# Altium integrated library BB Converter Analog to Digital.IntLib: 242 symbols (part 2 of 6)
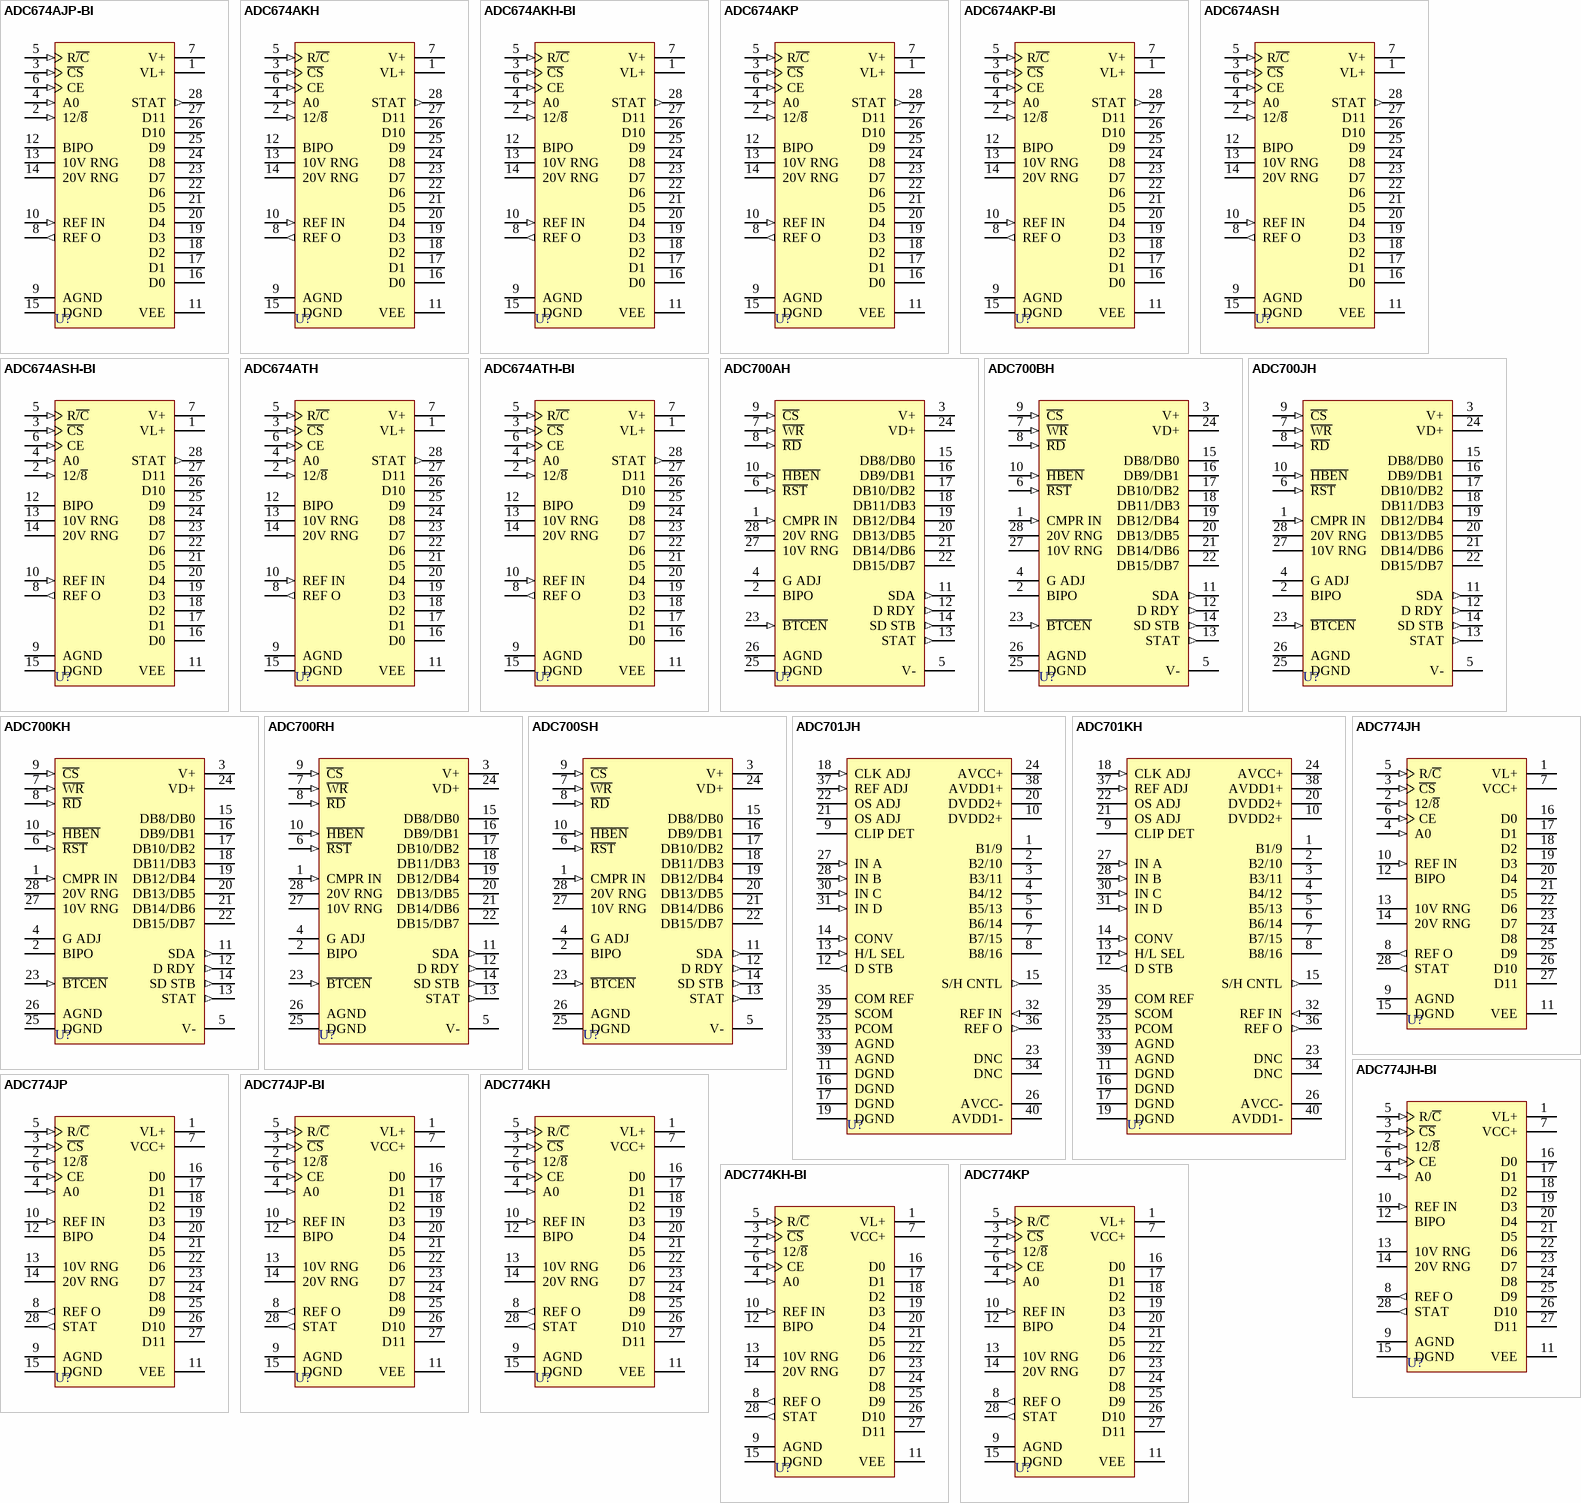
[diagram p10: symbols ADC674AJP-BI to ADC774KP]

## ADC674ASH-BI
designator U?
Microprocessor-Compatible Analog-to-Digital Converter; Published: 8-Jun-2000; LatestRevisionDate: 06-Jun-2005; LatestRevisionNote: Stylized 3D Model Added.; DatasheetVersion: 1996~1997; PackageVersion: 1994; PackageReference: 149; Publisher: Altium Limited; PackageDescription: DIP; 28 Leads; Row Spacing 15.24 mm; Pitch 2.54 mm; ComponentLink1Description: Manufacturer Link; ComponentLink1URL: http://www.ti.com/
footprint 149 (DIP; 28 Leads; Row Spacing 15.24 mm; Pitch 2.54 mm)
3D model 149 (DIP; 28 Leads; Row Spacing 15.24 mm; Pitch 2.54 mm)
pins: 1 VL+ (power), 2 12/~{8} (in), 3 ~{CS} (in), 4 A0 (in), 5 R~{/C} (in), 6 CE (in), 7 V+ (power), 8 REF O (out), 9 AGND (power), 10 REF IN (in), 11 VEE (power), 12 BIPO, 13 10V RNG, 14 20V RNG, 15 DGND (power), 16 D0 (hiz), 17 D1 (hiz), 18 D2 (hiz), 19 D3 (hiz), 20 D4 (hiz), 21 D5 (hiz), 22 D6 (hiz), 23 D7 (hiz), 24 D8 (hiz), 25 D9 (hiz), 26 D10 (hiz), 27 D11 (hiz), 28 STAT (out)

## ADC674ATH
designator U?
Microprocessor-Compatible Analog-to-Digital Converter; Published: 8-Jun-2000; LatestRevisionDate: 06-Jun-2005; LatestRevisionNote: Stylized 3D Model Added.; DatasheetVersion: 1996~1997; PackageVersion: 1994; PackageReference: 149; Publisher: Altium Limited; PackageDescription: DIP; 28 Leads; Row Spacing 15.24 mm; Pitch 2.54 mm; ComponentLink1Description: Manufacturer Link; ComponentLink1URL: http://www.ti.com/
footprint 149 (DIP; 28 Leads; Row Spacing 15.24 mm; Pitch 2.54 mm)
3D model 149 (DIP; 28 Leads; Row Spacing 15.24 mm; Pitch 2.54 mm)
pins: 1 VL+ (power), 2 12/~{8} (in), 3 ~{CS} (in), 4 A0 (in), 5 R~{/C} (in), 6 CE (in), 7 V+ (power), 8 REF O (out), 9 AGND (power), 10 REF IN (in), 11 VEE (power), 12 BIPO, 13 10V RNG, 14 20V RNG, 15 DGND (power), 16 D0 (hiz), 17 D1 (hiz), 18 D2 (hiz), 19 D3 (hiz), 20 D4 (hiz), 21 D5 (hiz), 22 D6 (hiz), 23 D7 (hiz), 24 D8 (hiz), 25 D9 (hiz), 26 D10 (hiz), 27 D11 (hiz), 28 STAT (out)

## ADC674ATH-BI
designator U?
Microprocessor-Compatible Analog-to-Digital Converter; Published: 8-Jun-2000; LatestRevisionDate: 06-Jun-2005; LatestRevisionNote: Stylized 3D Model Added.; DatasheetVersion: 1996~1997; PackageVersion: 1994; PackageReference: 149; Publisher: Altium Limited; PackageDescription: DIP; 28 Leads; Row Spacing 15.24 mm; Pitch 2.54 mm; ComponentLink1Description: Manufacturer Link; ComponentLink1URL: http://www.ti.com/
footprint 149 (DIP; 28 Leads; Row Spacing 15.24 mm; Pitch 2.54 mm)
3D model 149 (DIP; 28 Leads; Row Spacing 15.24 mm; Pitch 2.54 mm)
pins: 1 VL+ (power), 2 12/~{8} (in), 3 ~{CS} (in), 4 A0 (in), 5 R~{/C} (in), 6 CE (in), 7 V+ (power), 8 REF O (out), 9 AGND (power), 10 REF IN (in), 11 VEE (power), 12 BIPO, 13 10V RNG, 14 20V RNG, 15 DGND (power), 16 D0 (hiz), 17 D1 (hiz), 18 D2 (hiz), 19 D3 (hiz), 20 D4 (hiz), 21 D5 (hiz), 22 D6 (hiz), 23 D7 (hiz), 24 D8 (hiz), 25 D9 (hiz), 26 D10 (hiz), 27 D11 (hiz), 28 STAT (out)

## ADC700AH
designator U?
16-Bit Resolution with Microprocessor Interface A/D Converter; Published: 8-Jun-2000; LatestRevisionDate: 06-Jun-2005; LatestRevisionNote: Stylized 3D Model Added.; DatasheetVersion: Oct-1993; PackageVersion: revC; PackageReference: 237C; Publisher: Altium Limited; PackageDescription: DIP; 28 Leads; Row Spacing 15.24 mm; Pitch 2.54 mm; ComponentLink1Description: Manufacturer Link; ComponentLink1URL: http://www.ti.com/
footprint 237C (DIP; 28 Leads; Row Spacing 15.24 mm; Pitch 2.54 mm)
3D model P28 (DIP; 28 Leads; Row Spacing 15.24 mm; Pitch 2.54 mm)
pins: 1 CMPR IN (in), 2 BIPO, 3 V+ (power), 4 G ADJ, 5 V- (power), 6 ~{RST} (in), 7 ~{WR} (in), 8 ~{RD} (in), 9 ~{CS} (in), 10 ~{HBEN} (in), 11 SDA (out), 12 D RDY (out), 13 STAT (out), 14 SD STB (out), 15 DB8/DB0 (hiz), 16 DB9/DB1 (hiz), 17 DB10/DB2 (hiz), 18 DB11/DB3 (hiz), 19 DB12/DB4 (hiz), 20 DB13/DB5 (hiz), 21 DB14/DB6 (hiz), 22 DB15/DB7 (hiz), 23 ~{BTCEN} (in), 24 VD+ (power), 25 DGND (power), 26 AGND (power), 27 10V RNG, 28 20V RNG

## ADC700BH
designator U?
16-Bit Resolution with Microprocessor Interface A/D Converter; Published: 8-Jun-2000; LatestRevisionDate: 06-Jun-2005; LatestRevisionNote: Stylized 3D Model Added.; DatasheetVersion: Oct-1993; PackageVersion: revC; PackageReference: 237C; Publisher: Altium Limited; PackageDescription: DIP; 28 Leads; Row Spacing 15.24 mm; Pitch 2.54 mm; ComponentLink1Description: Manufacturer Link; ComponentLink1URL: http://www.ti.com/
footprint 237C (DIP; 28 Leads; Row Spacing 15.24 mm; Pitch 2.54 mm)
3D model P28 (DIP; 28 Leads; Row Spacing 15.24 mm; Pitch 2.54 mm)
pins: 1 CMPR IN (in), 2 BIPO, 3 V+ (power), 4 G ADJ, 5 V- (power), 6 ~{RST} (in), 7 ~{WR} (in), 8 ~{RD} (in), 9 ~{CS} (in), 10 ~{HBEN} (in), 11 SDA (out), 12 D RDY (out), 13 STAT (out), 14 SD STB (out), 15 DB8/DB0 (hiz), 16 DB9/DB1 (hiz), 17 DB10/DB2 (hiz), 18 DB11/DB3 (hiz), 19 DB12/DB4 (hiz), 20 DB13/DB5 (hiz), 21 DB14/DB6 (hiz), 22 DB15/DB7 (hiz), 23 ~{BTCEN} (in), 24 VD+ (power), 25 DGND (power), 26 AGND (power), 27 10V RNG, 28 20V RNG

## ADC700JH
designator U?
16-Bit Resolution with Microprocessor Interface A/D Converter; Published: 8-Jun-2000; LatestRevisionDate: 06-Jun-2005; LatestRevisionNote: Stylized 3D Model Added.; DatasheetVersion: Oct-1993; PackageVersion: revC; PackageReference: 237C; Publisher: Altium Limited; PackageDescription: DIP; 28 Leads; Row Spacing 15.24 mm; Pitch 2.54 mm; ComponentLink1Description: Manufacturer Link; ComponentLink1URL: http://www.ti.com/
footprint 237C (DIP; 28 Leads; Row Spacing 15.24 mm; Pitch 2.54 mm)
3D model P28 (DIP; 28 Leads; Row Spacing 15.24 mm; Pitch 2.54 mm)
pins: 1 CMPR IN (in), 2 BIPO, 3 V+ (power), 4 G ADJ, 5 V- (power), 6 ~{RST} (in), 7 ~{WR} (in), 8 ~{RD} (in), 9 ~{CS} (in), 10 ~{HBEN} (in), 11 SDA (out), 12 D RDY (out), 13 STAT (out), 14 SD STB (out), 15 DB8/DB0 (hiz), 16 DB9/DB1 (hiz), 17 DB10/DB2 (hiz), 18 DB11/DB3 (hiz), 19 DB12/DB4 (hiz), 20 DB13/DB5 (hiz), 21 DB14/DB6 (hiz), 22 DB15/DB7 (hiz), 23 ~{BTCEN} (in), 24 VD+ (power), 25 DGND (power), 26 AGND (power), 27 10V RNG, 28 20V RNG

## ADC700KH
designator U?
16-Bit Resolution with Microprocessor Interface A/D Converter; Published: 8-Jun-2000; LatestRevisionDate: 06-Jun-2005; LatestRevisionNote: Stylized 3D Model Added.; DatasheetVersion: Oct-1993; PackageVersion: revC; PackageReference: 237C; Publisher: Altium Limited; PackageDescription: DIP; 28 Leads; Row Spacing 15.24 mm; Pitch 2.54 mm; ComponentLink1Description: Manufacturer Link; ComponentLink1URL: http://www.ti.com/
footprint 237C (DIP; 28 Leads; Row Spacing 15.24 mm; Pitch 2.54 mm)
3D model P28 (DIP; 28 Leads; Row Spacing 15.24 mm; Pitch 2.54 mm)
pins: 1 CMPR IN (in), 2 BIPO, 3 V+ (power), 4 G ADJ, 5 V- (power), 6 ~{RST} (in), 7 ~{WR} (in), 8 ~{RD} (in), 9 ~{CS} (in), 10 ~{HBEN} (in), 11 SDA (out), 12 D RDY (out), 13 STAT (out), 14 SD STB (out), 15 DB8/DB0 (hiz), 16 DB9/DB1 (hiz), 17 DB10/DB2 (hiz), 18 DB11/DB3 (hiz), 19 DB12/DB4 (hiz), 20 DB13/DB5 (hiz), 21 DB14/DB6 (hiz), 22 DB15/DB7 (hiz), 23 ~{BTCEN} (in), 24 VD+ (power), 25 DGND (power), 26 AGND (power), 27 10V RNG, 28 20V RNG

## ADC700RH
designator U?
16-Bit Resolution with Microprocessor Interface A/D Converter; Published: 8-Jun-2000; LatestRevisionDate: 06-Jun-2005; LatestRevisionNote: Stylized 3D Model Added.; DatasheetVersion: Oct-1993; PackageVersion: revC; PackageReference: 237C; Publisher: Altium Limited; PackageDescription: DIP; 28 Leads; Row Spacing 15.24 mm; Pitch 2.54 mm; ComponentLink1Description: Manufacturer Link; ComponentLink1URL: http://www.ti.com/
footprint 237C (DIP; 28 Leads; Row Spacing 15.24 mm; Pitch 2.54 mm)
3D model P28 (DIP; 28 Leads; Row Spacing 15.24 mm; Pitch 2.54 mm)
pins: 1 CMPR IN (in), 2 BIPO, 3 V+ (power), 4 G ADJ, 5 V- (power), 6 ~{RST} (in), 7 ~{WR} (in), 8 ~{RD} (in), 9 ~{CS} (in), 10 ~{HBEN} (in), 11 SDA (out), 12 D RDY (out), 13 STAT (out), 14 SD STB (out), 15 DB8/DB0 (hiz), 16 DB9/DB1 (hiz), 17 DB10/DB2 (hiz), 18 DB11/DB3 (hiz), 19 DB12/DB4 (hiz), 20 DB13/DB5 (hiz), 21 DB14/DB6 (hiz), 22 DB15/DB7 (hiz), 23 ~{BTCEN} (in), 24 VD+ (power), 25 DGND (power), 26 AGND (power), 27 10V RNG, 28 20V RNG

## ADC700SH
designator U?
16-Bit Resolution with Microprocessor Interface A/D Converter; Published: 8-Jun-2000; LatestRevisionDate: 06-Jun-2005; LatestRevisionNote: Stylized 3D Model Added.; DatasheetVersion: Oct-1993; PackageVersion: revC; PackageReference: 237C; Publisher: Altium Limited; PackageDescription: DIP; 28 Leads; Row Spacing 15.24 mm; Pitch 2.54 mm; ComponentLink1Description: Manufacturer Link; ComponentLink1URL: http://www.ti.com/
footprint 237C (DIP; 28 Leads; Row Spacing 15.24 mm; Pitch 2.54 mm)
3D model P28 (DIP; 28 Leads; Row Spacing 15.24 mm; Pitch 2.54 mm)
pins: 1 CMPR IN (in), 2 BIPO, 3 V+ (power), 4 G ADJ, 5 V- (power), 6 ~{RST} (in), 7 ~{WR} (in), 8 ~{RD} (in), 9 ~{CS} (in), 10 ~{HBEN} (in), 11 SDA (out), 12 D RDY (out), 13 STAT (out), 14 SD STB (out), 15 DB8/DB0 (hiz), 16 DB9/DB1 (hiz), 17 DB10/DB2 (hiz), 18 DB11/DB3 (hiz), 19 DB12/DB4 (hiz), 20 DB13/DB5 (hiz), 21 DB14/DB6 (hiz), 22 DB15/DB7 (hiz), 23 ~{BTCEN} (in), 24 VD+ (power), 25 DGND (power), 26 AGND (power), 27 10V RNG, 28 20V RNG

## ADC701JH
designator U?
16-Bit 512KHz Sampling A/D Converter System; Note: Do Not Connect (DNC) Pins are 23 and 34.; Published: 8-Jun-2000; LatestRevisionDate: 17-Jul-2002; LatestRevisionNote: Re-released for DXP Platform.; DatasheetVersion: 1996~1997; PackageVersion: 1994; PackageReference: ZZ230; Publisher: Altium Limited; PackageDescription: DIP; 40 Round Pins; Row Space 22.86 mm; Pitch 2.54 mm; ComponentLink1Description: Manufacturer Link; ComponentLink1URL: http://www.ti.com/
footprint ZZ230 (DIP; 40 Round Pins; Row Space 22.86 mm; Pitch 2.54 mm)
pins: 1 B1/9 (hiz), 2 B2/10 (hiz), 3 B3/11 (hiz), 4 B4/12 (hiz), 5 B5/13 (hiz), 6 B6/14 (hiz), 7 B7/15 (hiz), 8 B8/16 (hiz), 9 CLIP DET, 10 DVDD2+ (power), 11 DGND (power), 12 D STB (out), 13 H/L SEL (in), 14 CONV (in), 15 S/H CNTL (out), 16 DGND (power), 17 DGND (power), 18 CLK ADJ (in), 19 DGND (power), 20 DVDD2+ (power), 21 OS ADJ, 22 OS ADJ, 23 DNC, 24 AVCC+ (power), 25 PCOM (power), 26 AVCC- (power), 27 IN A (in), 28 IN B (in), 29 SCOM (power), 30 IN C (in), 31 IN D (in), 32 REF IN (in), 33 AGND (power), 34 DNC, 35 COM REF (power), 36 REF O (out), 37 REF ADJ (in), 38 AVDD1+ (power), 39 AGND (power), 40 AVDD1- (power)

## ADC701KH
designator U?
16-Bit 512KHz Sampling A/D Converter System; Note: Do Not Connect (DNC) Pins are 23 and 34.; Published: 8-Jun-2000; LatestRevisionDate: 17-Jul-2002; LatestRevisionNote: Re-released for DXP Platform.; DatasheetVersion: 1996~1997; PackageVersion: 1994; PackageReference: ZZ230; Publisher: Altium Limited; PackageDescription: DIP; 40 Round Pins; Row Space 22.86 mm; Pitch 2.54 mm; ComponentLink1Description: Manufacturer Link; ComponentLink1URL: http://www.ti.com/
footprint ZZ230 (DIP; 40 Round Pins; Row Space 22.86 mm; Pitch 2.54 mm)
pins: 1 B1/9 (hiz), 2 B2/10 (hiz), 3 B3/11 (hiz), 4 B4/12 (hiz), 5 B5/13 (hiz), 6 B6/14 (hiz), 7 B7/15 (hiz), 8 B8/16 (hiz), 9 CLIP DET, 10 DVDD2+ (power), 11 DGND (power), 12 D STB (out), 13 H/L SEL (in), 14 CONV (in), 15 S/H CNTL (out), 16 DGND (power), 17 DGND (power), 18 CLK ADJ (in), 19 DGND (power), 20 DVDD2+ (power), 21 OS ADJ, 22 OS ADJ, 23 DNC, 24 AVCC+ (power), 25 PCOM (power), 26 AVCC- (power), 27 IN A (in), 28 IN B (in), 29 SCOM (power), 30 IN C (in), 31 IN D (in), 32 REF IN (in), 33 AGND (power), 34 DNC, 35 COM REF (power), 36 REF O (out), 37 REF ADJ (in), 38 AVDD1+ (power), 39 AGND (power), 40 AVDD1- (power)

## ADC774JH
designator U?
Microprocessor-Compatible Analog-to-Digital Converter; Published: 8-Jun-2000; LatestRevisionDate: 06-Jun-2005; LatestRevisionNote: Stylized 3D Model Added.; DatasheetVersion: 1996~1997; PackageVersion: 1994; PackageReference: 149; Publisher: Altium Limited; PackageDescription: DIP; 28 Leads; Row Spacing 15.24 mm; Pitch 2.54 mm; ComponentLink1Description: Manufacturer Link; ComponentLink1URL: http://www.ti.com/
footprint 149 (DIP; 28 Leads; Row Spacing 15.24 mm; Pitch 2.54 mm)
3D model 149 (DIP; 28 Leads; Row Spacing 15.24 mm; Pitch 2.54 mm)
pins: 1 VL+ (power), 2 12/~{8} (in), 3 ~{CS} (in), 4 A0 (in), 5 R/~{C} (in), 6 CE (in), 7 VCC+, 8 REF O (out), 9 AGND (power), 10 REF IN (in), 11 VEE (power), 12 BIPO, 13 10V RNG, 14 20V RNG, 15 DGND (power), 16 D0 (hiz), 17 D1 (hiz), 18 D2 (hiz), 19 D3 (hiz), 20 D4 (hiz), 21 D5 (hiz), 22 D6 (hiz), 23 D7 (hiz), 24 D8 (hiz), 25 D9 (hiz), 26 D10 (hiz), 27 D11 (hiz), 28 STAT (out)

## ADC774JH-BI
designator U?
Microprocessor-Compatible Analog-to-Digital Converter; Published: 8-Jun-2000; LatestRevisionDate: 06-Jun-2005; LatestRevisionNote: Stylized 3D Model Added.; DatasheetVersion: 1996~1997; PackageVersion: 1994; PackageReference: 149; Publisher: Altium Limited; PackageDescription: DIP; 28 Leads; Row Spacing 15.24 mm; Pitch 2.54 mm; ComponentLink1Description: Manufacturer Link; ComponentLink1URL: http://www.ti.com/
footprint 149 (DIP; 28 Leads; Row Spacing 15.24 mm; Pitch 2.54 mm)
3D model 149 (DIP; 28 Leads; Row Spacing 15.24 mm; Pitch 2.54 mm)
pins: 1 VL+ (power), 2 12/~{8} (in), 3 ~{CS} (in), 4 A0 (in), 5 R/~{C} (in), 6 CE (in), 7 VCC+, 8 REF O (out), 9 AGND (power), 10 REF IN (in), 11 VEE (power), 12 BIPO, 13 10V RNG, 14 20V RNG, 15 DGND (power), 16 D0 (hiz), 17 D1 (hiz), 18 D2 (hiz), 19 D3 (hiz), 20 D4 (hiz), 21 D5 (hiz), 22 D6 (hiz), 23 D7 (hiz), 24 D8 (hiz), 25 D9 (hiz), 26 D10 (hiz), 27 D11 (hiz), 28 STAT (out)

## ADC774JP
designator U?
Microprocessor-Compatible Analog-to-Digital Converter; Published: 8-Jun-2000; LatestRevisionDate: 06-Jun-2005; LatestRevisionNote: Stylized 3D Model Added.; DatasheetVersion: 1996~1997; PackageVersion: revJ; PackageReference: 215J; Publisher: Altium Limited; PackageDescription: DIP; 28 Leads; Row Spacing 15.24 mm; Pitch 2.54 mm; Code_JEDEC: MS-011-AB; ComponentLink1Description: Manufacturer Link; ComponentLink1URL: http://www.ti.com/
footprint 215J (DIP; 28 Leads; Row Spacing 15.24 mm; Pitch 2.54 mm)
3D model 215J (DIP; 28 Leads; Row Spacing 15.24 mm; Pitch 2.54 mm)
pins: 1 VL+ (power), 2 12/~{8} (in), 3 ~{CS} (in), 4 A0 (in), 5 R/~{C} (in), 6 CE (in), 7 VCC+, 8 REF O (out), 9 AGND (power), 10 REF IN (in), 11 VEE (power), 12 BIPO, 13 10V RNG, 14 20V RNG, 15 DGND (power), 16 D0 (hiz), 17 D1 (hiz), 18 D2 (hiz), 19 D3 (hiz), 20 D4 (hiz), 21 D5 (hiz), 22 D6 (hiz), 23 D7 (hiz), 24 D8 (hiz), 25 D9 (hiz), 26 D10 (hiz), 27 D11 (hiz), 28 STAT (out)

## ADC774JP-BI
designator U?
Microprocessor-Compatible Analog-to-Digital Converter; Published: 8-Jun-2000; LatestRevisionDate: 06-Jun-2005; LatestRevisionNote: Stylized 3D Model Added.; DatasheetVersion: 1996~1997; PackageVersion: revJ; PackageReference: 215J; Publisher: Altium Limited; PackageDescription: DIP; 28 Leads; Row Spacing 15.24 mm; Pitch 2.54 mm; Code_JEDEC: MS-011-AB; ComponentLink1Description: Manufacturer Link; ComponentLink1URL: http://www.ti.com/
footprint 215J (DIP; 28 Leads; Row Spacing 15.24 mm; Pitch 2.54 mm)
3D model 215J (DIP; 28 Leads; Row Spacing 15.24 mm; Pitch 2.54 mm)
pins: 1 VL+ (power), 2 12/~{8} (in), 3 ~{CS} (in), 4 A0 (in), 5 R/~{C} (in), 6 CE (in), 7 VCC+, 8 REF O (out), 9 AGND (power), 10 REF IN (in), 11 VEE (power), 12 BIPO, 13 10V RNG, 14 20V RNG, 15 DGND (power), 16 D0 (hiz), 17 D1 (hiz), 18 D2 (hiz), 19 D3 (hiz), 20 D4 (hiz), 21 D5 (hiz), 22 D6 (hiz), 23 D7 (hiz), 24 D8 (hiz), 25 D9 (hiz), 26 D10 (hiz), 27 D11 (hiz), 28 STAT (out)

## ADC774KH
designator U?
Microprocessor-Compatible Analog-to-Digital Converter; Published: 8-Jun-2000; LatestRevisionDate: 06-Jun-2005; LatestRevisionNote: Stylized 3D Model Added.; DatasheetVersion: 1996~1997; PackageVersion: 1994; PackageReference: 149; Publisher: Altium Limited; PackageDescription: DIP; 28 Leads; Row Spacing 15.24 mm; Pitch 2.54 mm; ComponentLink1Description: Manufacturer Link; ComponentLink1URL: http://www.ti.com/
footprint 149 (DIP; 28 Leads; Row Spacing 15.24 mm; Pitch 2.54 mm)
3D model 149 (DIP; 28 Leads; Row Spacing 15.24 mm; Pitch 2.54 mm)
pins: 1 VL+ (power), 2 12/~{8} (in), 3 ~{CS} (in), 4 A0 (in), 5 R/~{C} (in), 6 CE (in), 7 VCC+, 8 REF O (out), 9 AGND (power), 10 REF IN (in), 11 VEE (power), 12 BIPO, 13 10V RNG, 14 20V RNG, 15 DGND (power), 16 D0 (hiz), 17 D1 (hiz), 18 D2 (hiz), 19 D3 (hiz), 20 D4 (hiz), 21 D5 (hiz), 22 D6 (hiz), 23 D7 (hiz), 24 D8 (hiz), 25 D9 (hiz), 26 D10 (hiz), 27 D11 (hiz), 28 STAT (out)

## ADC774KH-BI
designator U?
Microprocessor-Compatible Analog-to-Digital Converter; Published: 8-Jun-2000; LatestRevisionDate: 06-Jun-2005; LatestRevisionNote: Stylized 3D Model Added.; DatasheetVersion: 1996~1997; PackageVersion: 1994; PackageReference: 149; Publisher: Altium Limited; PackageDescription: DIP; 28 Leads; Row Spacing 15.24 mm; Pitch 2.54 mm; ComponentLink1Description: Manufacturer Link; ComponentLink1URL: http://www.ti.com/
footprint 149 (DIP; 28 Leads; Row Spacing 15.24 mm; Pitch 2.54 mm)
3D model 149 (DIP; 28 Leads; Row Spacing 15.24 mm; Pitch 2.54 mm)
pins: 1 VL+ (power), 2 12/~{8} (in), 3 ~{CS} (in), 4 A0 (in), 5 R/~{C} (in), 6 CE (in), 7 VCC+, 8 REF O (out), 9 AGND (power), 10 REF IN (in), 11 VEE (power), 12 BIPO, 13 10V RNG, 14 20V RNG, 15 DGND (power), 16 D0 (hiz), 17 D1 (hiz), 18 D2 (hiz), 19 D3 (hiz), 20 D4 (hiz), 21 D5 (hiz), 22 D6 (hiz), 23 D7 (hiz), 24 D8 (hiz), 25 D9 (hiz), 26 D10 (hiz), 27 D11 (hiz), 28 STAT (out)

## ADC774KP
designator U?
Microprocessor-Compatible Analog-to-Digital Converter; Published: 8-Jun-2000; LatestRevisionDate: 06-Jun-2005; LatestRevisionNote: Stylized 3D Model Added.; DatasheetVersion: 1996~1997; PackageVersion: revJ; PackageReference: 215J; Publisher: Altium Limited; PackageDescription: DIP; 28 Leads; Row Spacing 15.24 mm; Pitch 2.54 mm; Code_JEDEC: MS-011-AB; ComponentLink1Description: Manufacturer Link; ComponentLink1URL: http://www.ti.com/
footprint 215J (DIP; 28 Leads; Row Spacing 15.24 mm; Pitch 2.54 mm)
3D model 215J (DIP; 28 Leads; Row Spacing 15.24 mm; Pitch 2.54 mm)
pins: 1 VL+ (power), 2 12/~{8} (in), 3 ~{CS} (in), 4 A0 (in), 5 R/~{C} (in), 6 CE (in), 7 VCC+, 8 REF O (out), 9 AGND (power), 10 REF IN (in), 11 VEE (power), 12 BIPO, 13 10V RNG, 14 20V RNG, 15 DGND (power), 16 D0 (hiz), 17 D1 (hiz), 18 D2 (hiz), 19 D3 (hiz), 20 D4 (hiz), 21 D5 (hiz), 22 D6 (hiz), 23 D7 (hiz), 24 D8 (hiz), 25 D9 (hiz), 26 D10 (hiz), 27 D11 (hiz), 28 STAT (out)

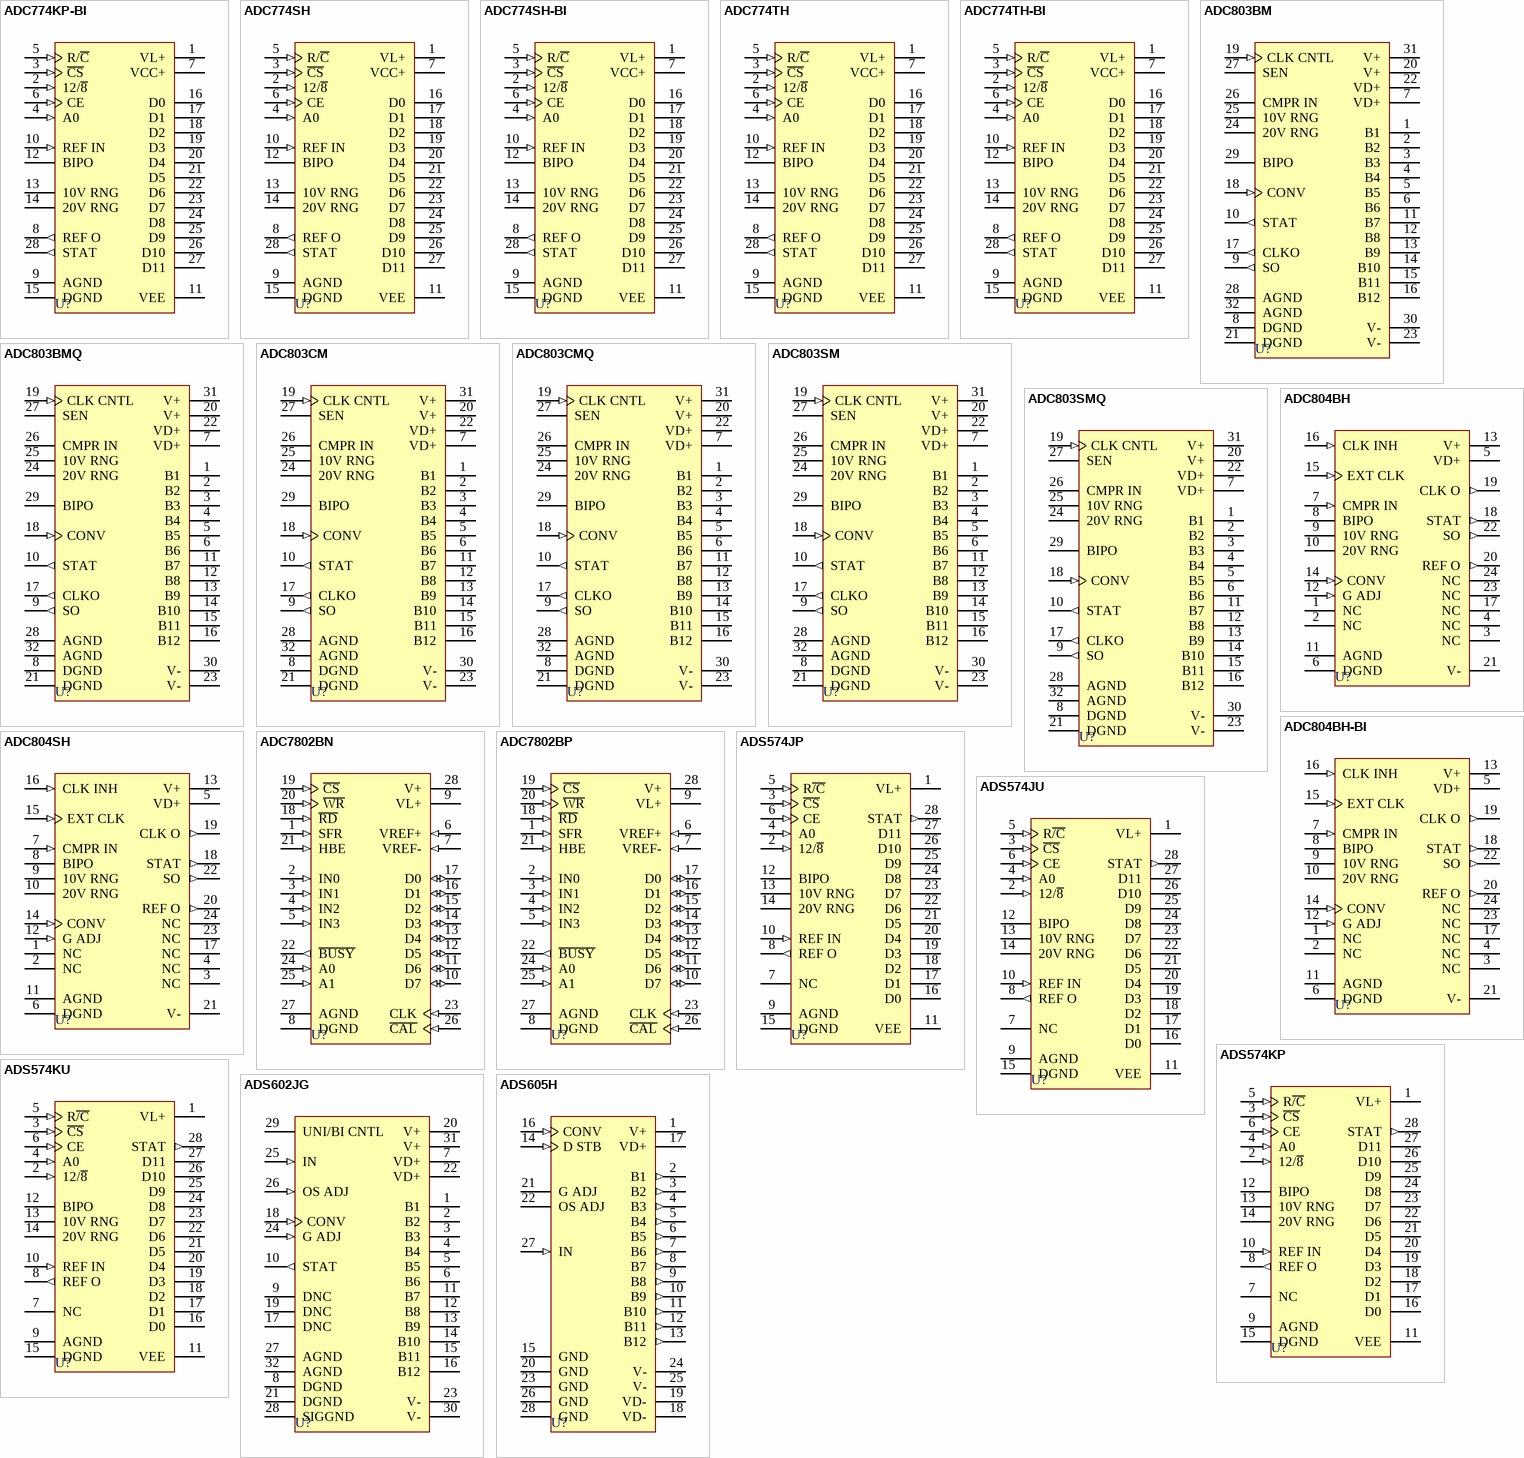
[diagram p3: symbols ADC774KP-BI to ADS605H]

## ADC774KP-BI
designator U?
Microprocessor-Compatible Analog-to-Digital Converter; Published: 8-Jun-2000; LatestRevisionDate: 06-Jun-2005; LatestRevisionNote: Stylized 3D Model Added.; DatasheetVersion: 1996~1997; PackageVersion: revJ; PackageReference: 215J; Publisher: Altium Limited; PackageDescription: DIP; 28 Leads; Row Spacing 15.24 mm; Pitch 2.54 mm; Code_JEDEC: MS-011-AB; ComponentLink1Description: Manufacturer Link; ComponentLink1URL: http://www.ti.com/
footprint 215J (DIP; 28 Leads; Row Spacing 15.24 mm; Pitch 2.54 mm)
3D model 215J (DIP; 28 Leads; Row Spacing 15.24 mm; Pitch 2.54 mm)
pins: 1 VL+ (power), 2 12/~{8} (in), 3 ~{CS} (in), 4 A0 (in), 5 R/~{C} (in), 6 CE (in), 7 VCC+, 8 REF O (out), 9 AGND (power), 10 REF IN (in), 11 VEE (power), 12 BIPO, 13 10V RNG, 14 20V RNG, 15 DGND (power), 16 D0 (hiz), 17 D1 (hiz), 18 D2 (hiz), 19 D3 (hiz), 20 D4 (hiz), 21 D5 (hiz), 22 D6 (hiz), 23 D7 (hiz), 24 D8 (hiz), 25 D9 (hiz), 26 D10 (hiz), 27 D11 (hiz), 28 STAT (out)

## ADC774SH
designator U?
Microprocessor-Compatible Analog-to-Digital Converter; Published: 8-Jun-2000; LatestRevisionDate: 06-Jun-2005; LatestRevisionNote: Stylized 3D Model Added.; DatasheetVersion: 1996~1997; PackageVersion: 1994; PackageReference: 149; Publisher: Altium Limited; PackageDescription: DIP; 28 Leads; Row Spacing 15.24 mm; Pitch 2.54 mm; ComponentLink1Description: Manufacturer Link; ComponentLink1URL: http://www.ti.com/
footprint 149 (DIP; 28 Leads; Row Spacing 15.24 mm; Pitch 2.54 mm)
3D model 149 (DIP; 28 Leads; Row Spacing 15.24 mm; Pitch 2.54 mm)
pins: 1 VL+ (power), 2 12/~{8} (in), 3 ~{CS} (in), 4 A0 (in), 5 R/~{C} (in), 6 CE (in), 7 VCC+, 8 REF O (out), 9 AGND (power), 10 REF IN (in), 11 VEE (power), 12 BIPO, 13 10V RNG, 14 20V RNG, 15 DGND (power), 16 D0 (hiz), 17 D1 (hiz), 18 D2 (hiz), 19 D3 (hiz), 20 D4 (hiz), 21 D5 (hiz), 22 D6 (hiz), 23 D7 (hiz), 24 D8 (hiz), 25 D9 (hiz), 26 D10 (hiz), 27 D11 (hiz), 28 STAT (out)

## ADC774SH-BI
designator U?
Microprocessor-Compatible Analog-to-Digital Converter; Published: 8-Jun-2000; LatestRevisionDate: 06-Jun-2005; LatestRevisionNote: Stylized 3D Model Added.; DatasheetVersion: 1996~1997; PackageVersion: 1994; PackageReference: 149; Publisher: Altium Limited; PackageDescription: DIP; 28 Leads; Row Spacing 15.24 mm; Pitch 2.54 mm; ComponentLink1Description: Manufacturer Link; ComponentLink1URL: http://www.ti.com/
footprint 149 (DIP; 28 Leads; Row Spacing 15.24 mm; Pitch 2.54 mm)
3D model 149 (DIP; 28 Leads; Row Spacing 15.24 mm; Pitch 2.54 mm)
pins: 1 VL+ (power), 2 12/~{8} (in), 3 ~{CS} (in), 4 A0 (in), 5 R/~{C} (in), 6 CE (in), 7 VCC+, 8 REF O (out), 9 AGND (power), 10 REF IN (in), 11 VEE (power), 12 BIPO, 13 10V RNG, 14 20V RNG, 15 DGND (power), 16 D0 (hiz), 17 D1 (hiz), 18 D2 (hiz), 19 D3 (hiz), 20 D4 (hiz), 21 D5 (hiz), 22 D6 (hiz), 23 D7 (hiz), 24 D8 (hiz), 25 D9 (hiz), 26 D10 (hiz), 27 D11 (hiz), 28 STAT (out)

## ADC774TH
designator U?
Microprocessor-Compatible Analog-to-Digital Converter; Published: 8-Jun-2000; LatestRevisionDate: 06-Jun-2005; LatestRevisionNote: Stylized 3D Model Added.; DatasheetVersion: 1996~1997; PackageVersion: 1994; PackageReference: 149; Publisher: Altium Limited; PackageDescription: DIP; 28 Leads; Row Spacing 15.24 mm; Pitch 2.54 mm; ComponentLink1Description: Manufacturer Link; ComponentLink1URL: http://www.ti.com/
footprint 149 (DIP; 28 Leads; Row Spacing 15.24 mm; Pitch 2.54 mm)
3D model 149 (DIP; 28 Leads; Row Spacing 15.24 mm; Pitch 2.54 mm)
pins: 1 VL+ (power), 2 12/~{8} (in), 3 ~{CS} (in), 4 A0 (in), 5 R/~{C} (in), 6 CE (in), 7 VCC+, 8 REF O (out), 9 AGND (power), 10 REF IN (in), 11 VEE (power), 12 BIPO, 13 10V RNG, 14 20V RNG, 15 DGND (power), 16 D0 (hiz), 17 D1 (hiz), 18 D2 (hiz), 19 D3 (hiz), 20 D4 (hiz), 21 D5 (hiz), 22 D6 (hiz), 23 D7 (hiz), 24 D8 (hiz), 25 D9 (hiz), 26 D10 (hiz), 27 D11 (hiz), 28 STAT (out)

## ADC774TH-BI
designator U?
Microprocessor-Compatible Analog-to-Digital Converter; Published: 8-Jun-2000; LatestRevisionDate: 06-Jun-2005; LatestRevisionNote: Stylized 3D Model Added.; DatasheetVersion: 1996~1997; PackageVersion: 1994; PackageReference: 149; Publisher: Altium Limited; PackageDescription: DIP; 28 Leads; Row Spacing 15.24 mm; Pitch 2.54 mm; ComponentLink1Description: Manufacturer Link; ComponentLink1URL: http://www.ti.com/
footprint 149 (DIP; 28 Leads; Row Spacing 15.24 mm; Pitch 2.54 mm)
3D model 149 (DIP; 28 Leads; Row Spacing 15.24 mm; Pitch 2.54 mm)
pins: 1 VL+ (power), 2 12/~{8} (in), 3 ~{CS} (in), 4 A0 (in), 5 R/~{C} (in), 6 CE (in), 7 VCC+, 8 REF O (out), 9 AGND (power), 10 REF IN (in), 11 VEE (power), 12 BIPO, 13 10V RNG, 14 20V RNG, 15 DGND (power), 16 D0 (hiz), 17 D1 (hiz), 18 D2 (hiz), 19 D3 (hiz), 20 D4 (hiz), 21 D5 (hiz), 22 D6 (hiz), 23 D7 (hiz), 24 D8 (hiz), 25 D9 (hiz), 26 D10 (hiz), 27 D11 (hiz), 28 STAT (out)

## ADC803BM
designator U?
High-Speed Analog-to-Digital Converter; Note: Serial data on Pin 9 is not guaranteed.; ComponentAvailability: Obsolete; Published: 8-Jun-2000; LatestRevisionDate: 17-Jul-2002; LatestRevisionNote: Re-released for DXP Platform.; DatasheetVersion: 1996~1997; PackageVersion: 1994; PackageReference: ZZ116; Publisher: Altium Limited; PackageDescription: DIP; 32 Round Pins; Row Space 22.86 mm; Pitch 2.54 mm; ComponentLink1Description: Manufacturer Link; ComponentLink1URL: http://www.ti.com/; ComponentLink2Description: Datasheet; ComponentLink2URL: http://www-s.ti.com/sc/ds/adc0803.pdf
footprint ZZ116 (DIP; 32 Round Pins; Row Space 22.86 mm; Pitch 2.54 mm)
pins: 1 B1 (hiz), 2 B2 (hiz), 3 B3 (hiz), 4 B4 (hiz), 5 B5 (hiz), 6 B6 (hiz), 7 VD+ (power), 8 DGND (power), 9 SO (out), 10 STAT (out), 11 B7 (hiz), 12 B8 (hiz), 13 B9 (hiz), 14 B10 (hiz), 15 B11 (hiz), 16 B12 (hiz), 17 CLKO (out), 18 CONV (in), 19 CLK CNTL (in), 20 V+ (power), 21 DGND (power), 22 VD+ (power), 23 V- (power), 24 20V RNG, 25 10V RNG, 26 CMPR IN, 27 SEN, 28 AGND (power), 29 BIPO, 30 V- (power), 31 V+ (power), 32 AGND (power)

## ADC803BMQ
designator U?
High-Speed Analog-to-Digital Converter; Note: Serial data on Pin 9 is not guaranteed.; ComponentAvailability: Obsolete; Published: 8-Jun-2000; LatestRevisionDate: 17-Jul-2002; LatestRevisionNote: Re-released for DXP Platform.; DatasheetVersion: 1996~1997; PackageVersion: 1994; PackageReference: ZZ116; Publisher: Altium Limited; PackageDescription: DIP; 32 Round Pins; Row Space 22.86 mm; Pitch 2.54 mm; ComponentLink1Description: Manufacturer Link; ComponentLink1URL: http://www.ti.com/; ComponentLink2Description: Datasheet; ComponentLink2URL: http://www-s.ti.com/sc/ds/adc0803.pdf
footprint ZZ116 (DIP; 32 Round Pins; Row Space 22.86 mm; Pitch 2.54 mm)
pins: 1 B1 (hiz), 2 B2 (hiz), 3 B3 (hiz), 4 B4 (hiz), 5 B5 (hiz), 6 B6 (hiz), 7 VD+ (power), 8 DGND (power), 9 SO (out), 10 STAT (out), 11 B7 (hiz), 12 B8 (hiz), 13 B9 (hiz), 14 B10 (hiz), 15 B11 (hiz), 16 B12 (hiz), 17 CLKO (out), 18 CONV (in), 19 CLK CNTL (in), 20 V+ (power), 21 DGND (power), 22 VD+ (power), 23 V- (power), 24 20V RNG, 25 10V RNG, 26 CMPR IN, 27 SEN, 28 AGND (power), 29 BIPO, 30 V- (power), 31 V+ (power), 32 AGND (power)

## ADC803CM
designator U?
High-Speed Analog-to-Digital Converter; Note: Serial data on Pin 9 is not guaranteed.; ComponentAvailability: Obsolete; Published: 8-Jun-2000; LatestRevisionDate: 17-Jul-2002; LatestRevisionNote: Re-released for DXP Platform.; DatasheetVersion: 1996~1997; PackageVersion: 1994; PackageReference: ZZ116; Publisher: Altium Limited; PackageDescription: DIP; 32 Round Pins; Row Space 22.86 mm; Pitch 2.54 mm; ComponentLink1Description: Manufacturer Link; ComponentLink1URL: http://www.ti.com/; ComponentLink2Description: Datasheet; ComponentLink2URL: http://www-s.ti.com/sc/ds/adc0803.pdf
footprint ZZ116 (DIP; 32 Round Pins; Row Space 22.86 mm; Pitch 2.54 mm)
pins: 1 B1 (hiz), 2 B2 (hiz), 3 B3 (hiz), 4 B4 (hiz), 5 B5 (hiz), 6 B6 (hiz), 7 VD+ (power), 8 DGND (power), 9 SO (out), 10 STAT (out), 11 B7 (hiz), 12 B8 (hiz), 13 B9 (hiz), 14 B10 (hiz), 15 B11 (hiz), 16 B12 (hiz), 17 CLKO (out), 18 CONV (in), 19 CLK CNTL (in), 20 V+ (power), 21 DGND (power), 22 VD+ (power), 23 V- (power), 24 20V RNG, 25 10V RNG, 26 CMPR IN, 27 SEN, 28 AGND (power), 29 BIPO, 30 V- (power), 31 V+ (power), 32 AGND (power)

## ADC803CMQ
designator U?
High-Speed Analog-to-Digital Converter; Note: Serial data on Pin 9 is not guaranteed.; ComponentAvailability: Obsolete; Published: 8-Jun-2000; LatestRevisionDate: 17-Jul-2002; LatestRevisionNote: Re-released for DXP Platform.; DatasheetVersion: 1996~1997; PackageVersion: 1994; PackageReference: ZZ116; Publisher: Altium Limited; PackageDescription: DIP; 32 Round Pins; Row Space 22.86 mm; Pitch 2.54 mm; ComponentLink1Description: Manufacturer Link; ComponentLink1URL: http://www.ti.com/; ComponentLink2Description: Datasheet; ComponentLink2URL: http://www-s.ti.com/sc/ds/adc0803.pdf
footprint ZZ116 (DIP; 32 Round Pins; Row Space 22.86 mm; Pitch 2.54 mm)
pins: 1 B1 (hiz), 2 B2 (hiz), 3 B3 (hiz), 4 B4 (hiz), 5 B5 (hiz), 6 B6 (hiz), 7 VD+ (power), 8 DGND (power), 9 SO (out), 10 STAT (out), 11 B7 (hiz), 12 B8 (hiz), 13 B9 (hiz), 14 B10 (hiz), 15 B11 (hiz), 16 B12 (hiz), 17 CLKO (out), 18 CONV (in), 19 CLK CNTL (in), 20 V+ (power), 21 DGND (power), 22 VD+ (power), 23 V- (power), 24 20V RNG, 25 10V RNG, 26 CMPR IN, 27 SEN, 28 AGND (power), 29 BIPO, 30 V- (power), 31 V+ (power), 32 AGND (power)

## ADC803SM
designator U?
High-Speed Analog-to-Digital Converter; Note: Serial data on Pin 9 is not guaranteed.; ComponentAvailability: Obsolete; Published: 8-Jun-2000; LatestRevisionDate: 17-Jul-2002; LatestRevisionNote: Re-released for DXP Platform.; DatasheetVersion: 1996~1997; PackageVersion: 1994; PackageReference: ZZ116; Publisher: Altium Limited; PackageDescription: DIP; 32 Round Pins; Row Space 22.86 mm; Pitch 2.54 mm; ComponentLink1Description: Manufacturer Link; ComponentLink1URL: http://www.ti.com/; ComponentLink2Description: Datasheet; ComponentLink2URL: http://www-s.ti.com/sc/ds/adc0803.pdf
footprint ZZ116 (DIP; 32 Round Pins; Row Space 22.86 mm; Pitch 2.54 mm)
pins: 1 B1 (hiz), 2 B2 (hiz), 3 B3 (hiz), 4 B4 (hiz), 5 B5 (hiz), 6 B6 (hiz), 7 VD+ (power), 8 DGND (power), 9 SO (out), 10 STAT (out), 11 B7 (hiz), 12 B8 (hiz), 13 B9 (hiz), 14 B10 (hiz), 15 B11 (hiz), 16 B12 (hiz), 17 CLKO (out), 18 CONV (in), 19 CLK CNTL (in), 20 V+ (power), 21 DGND (power), 22 VD+ (power), 23 V- (power), 24 20V RNG, 25 10V RNG, 26 CMPR IN, 27 SEN, 28 AGND (power), 29 BIPO, 30 V- (power), 31 V+ (power), 32 AGND (power)

## ADC803SMQ
designator U?
High-Speed Analog-to-Digital Converter; Note: Serial data on Pin 9 is not guaranteed.; ComponentAvailability: Obsolete; Published: 8-Jun-2000; LatestRevisionDate: 17-Jul-2002; LatestRevisionNote: Re-released for DXP Platform.; DatasheetVersion: 1996~1997; PackageVersion: 1994; PackageReference: ZZ116; Publisher: Altium Limited; PackageDescription: DIP; 32 Round Pins; Row Space 22.86 mm; Pitch 2.54 mm; ComponentLink1Description: Manufacturer Link; ComponentLink1URL: http://www.ti.com/; ComponentLink2Description: Datasheet; ComponentLink2URL: http://www-s.ti.com/sc/ds/adc0803.pdf
footprint ZZ116 (DIP; 32 Round Pins; Row Space 22.86 mm; Pitch 2.54 mm)
pins: 1 B1 (hiz), 2 B2 (hiz), 3 B3 (hiz), 4 B4 (hiz), 5 B5 (hiz), 6 B6 (hiz), 7 VD+ (power), 8 DGND (power), 9 SO (out), 10 STAT (out), 11 B7 (hiz), 12 B8 (hiz), 13 B9 (hiz), 14 B10 (hiz), 15 B11 (hiz), 16 B12 (hiz), 17 CLKO (out), 18 CONV (in), 19 CLK CNTL (in), 20 V+ (power), 21 DGND (power), 22 VD+ (power), 23 V- (power), 24 20V RNG, 25 10V RNG, 26 CMPR IN, 27 SEN, 28 AGND (power), 29 BIPO, 30 V- (power), 31 V+ (power), 32 AGND (power)

## ADC804BH
designator U?
Serial Output Analog-to-Digital Converter; Note: Pins 1,2,3,4,17,23 and 24 are No internal Connection (NC) pins.; ComponentAvailability: Obsolete; Published: 8-Jun-2000; LatestRevisionDate: 06-Jun-2005; LatestRevisionNote: Stylized 3D Model Added.; DatasheetVersion: 1989; PackageReference: DIP24C; Publisher: Altium Limited; PackageDescription: DIP; 24 Leads; Row Spacing 15.24 mm; Pitch 2.54 mm; ComponentLink1Description: Manufacturer Link; ComponentLink1URL: http://www.ti.com/; ComponentLink2Description: Datasheet; ComponentLink2URL: http://www-s.ti.com/sc/ds/adc0804.pdf
footprint DIP24C (DIP; 24 Leads; Row Spacing 15.24 mm; Pitch 2.54 mm)
3D model DIP24C (DIP; 24 Leads; Row Spacing 15.24 mm; Pitch 2.54 mm)
pins: 1 NC, 2 NC, 3 NC, 4 NC, 5 VD+ (power), 6 DGND (power), 7 CMPR IN (in), 8 BIPO, 9 10V RNG, 10 20V RNG, 11 AGND (power), 12 G ADJ (in), 13 V+ (power), 14 CONV (in), 15 EXT CLK (in), 16 CLK INH (in), 17 NC, 18 STAT (out), 19 CLK O (out), 20 REF O (out), 21 V- (power), 22 SO (out), 23 NC, 24 NC

## ADC804BH-BI
designator U?
Serial Output Analog-to-Digital Converter; Note: Pins 1,2,3,4,17,23 and 24 are No internal Connection (NC) pins.; ComponentAvailability: Obsolete; Published: 8-Jun-2000; LatestRevisionDate: 06-Jun-2005; LatestRevisionNote: Stylized 3D Model Added.; DatasheetVersion: 1989; PackageReference: DIP24C; Publisher: Altium Limited; PackageDescription: DIP; 24 Leads; Row Spacing 15.24 mm; Pitch 2.54 mm; ComponentLink1Description: Manufacturer Link; ComponentLink1URL: http://www.ti.com/; ComponentLink2Description: Datasheet; ComponentLink2URL: http://www-s.ti.com/sc/ds/adc0804.pdf
footprint DIP24C (DIP; 24 Leads; Row Spacing 15.24 mm; Pitch 2.54 mm)
3D model DIP24C (DIP; 24 Leads; Row Spacing 15.24 mm; Pitch 2.54 mm)
pins: 1 NC, 2 NC, 3 NC, 4 NC, 5 VD+ (power), 6 DGND (power), 7 CMPR IN (in), 8 BIPO, 9 10V RNG, 10 20V RNG, 11 AGND (power), 12 G ADJ (in), 13 V+ (power), 14 CONV (in), 15 EXT CLK (in), 16 CLK INH (in), 17 NC, 18 STAT (out), 19 CLK O (out), 20 REF O (out), 21 V- (power), 22 SO (out), 23 NC, 24 NC

## ADC804SH
designator U?
Serial Output Analog-to-Digital Converter; Note: Pins 1,2,3,4,17,23 and 24 are No internal Connection (NC) pins.; ComponentAvailability: Obsolete; Published: 8-Jun-2000; LatestRevisionDate: 06-Jun-2005; LatestRevisionNote: Stylized 3D Model Added.; DatasheetVersion: 1989; PackageReference: DIP24C; Publisher: Altium Limited; PackageDescription: DIP; 24 Leads; Row Spacing 15.24 mm; Pitch 2.54 mm; ComponentLink1Description: Manufacturer Link; ComponentLink1URL: http://www.ti.com/; ComponentLink2Description: Datasheet; ComponentLink2URL: http://www-s.ti.com/sc/ds/adc0804.pdf
footprint DIP24C (DIP; 24 Leads; Row Spacing 15.24 mm; Pitch 2.54 mm)
3D model DIP24C (DIP; 24 Leads; Row Spacing 15.24 mm; Pitch 2.54 mm)
pins: 1 NC, 2 NC, 3 NC, 4 NC, 5 VD+ (power), 6 DGND (power), 7 CMPR IN (in), 8 BIPO, 9 10V RNG, 10 20V RNG, 11 AGND (power), 12 G ADJ (in), 13 V+ (power), 14 CONV (in), 15 EXT CLK (in), 16 CLK INH (in), 17 NC, 18 STAT (out), 19 CLK O (out), 20 REF O (out), 21 V- (power), 22 SO (out), 23 NC, 24 NC

## ADC7802BN
designator U?
Autocalibrating, 4-Channel, 12-Bit Analog-to-Digital Converter; Published: 8-Jun-2000; LatestRevisionDate: 13-Apr-2006; LatestRevisionNote: IPC-7351 Footprint Added.; DatasheetVersion: 1996~1997; PackageReference: 251A; Publisher: Altium Limited; PackageDescription: 28-Pin Leaded Chip Carrier 1.27 mm Pitch; ComponentLink1Description: Manufacturer Link; ComponentLink1URL: http://www.ti.com/
footprint 251A_N (Leaded Chip Carrier, 28-Leads, Body 11.6x11.6mm, Pitch 1.27mm, IPC Medium Density)
footprint 251A_L (Leaded Chip Carrier, 28-Leads, Body 11.6x11.6mm, Pitch 1.27mm, IPC High Density)
footprint 251A_M (Leaded Chip Carrier, 28-Leads, Body 11.6x11.6mm, Pitch 1.27mm, IPC Low Density)
3D model ADC7802BN-LCC28 (28-Pin Leaded Chip Carrier 1.27 mm Pitch)
pins: 1 SFR (in), 2 IN0 (in), 3 IN1 (in), 4 IN2 (in), 5 IN3 (in), 6 VREF+ (in), 7 VREF- (in), 8 DGND (power), 9 VL+ (power), 10 D7 (io), 11 D6 (io), 12 D5 (io), 13 D4 (io), 14 D3 (io), 15 D2 (io), 16 D1 (io), 17 D0 (io), 18 ~{RD} (in), 19 ~{CS} (in), 20 ~{WR} (in), 21 HBE (in), 22 ~{BUSY} (out), 23 CLK (in), 24 A0 (in), 25 A1 (in), 26 ~{CAL} (in), 27 AGND (power), 28 V+ (power)

## ADC7802BP
designator U?
Autocalibrating, 4-Channel, 12-Bit Analog-to-Digital Converter; Published: 8-Jun-2000; LatestRevisionDate: 06-Jun-2005; LatestRevisionNote: Stylized 3D Model Added.; DatasheetVersion: 1996~1997; PackageVersion: revJ; PackageReference: 215J; Publisher: Altium Limited; PackageDescription: DIP; 28 Leads; Row Spacing 15.24 mm; Pitch 2.54 mm; Code_JEDEC: MS-011-AB; ComponentLink1Description: Manufacturer Link; ComponentLink1URL: http://www.ti.com/
footprint 215J (DIP; 28 Leads; Row Spacing 15.24 mm; Pitch 2.54 mm)
3D model 215J (DIP; 28 Leads; Row Spacing 15.24 mm; Pitch 2.54 mm)
pins: 1 SFR (in), 2 IN0 (in), 3 IN1 (in), 4 IN2 (in), 5 IN3 (in), 6 VREF+ (in), 7 VREF- (in), 8 DGND (power), 9 VL+ (power), 10 D7 (io), 11 D6 (io), 12 D5 (io), 13 D4 (io), 14 D3 (io), 15 D2 (io), 16 D1 (io), 17 D0 (io), 18 ~{RD} (in), 19 ~{CS} (in), 20 ~{WR} (in), 21 HBE (in), 22 ~{BUSY} (out), 23 CLK (in), 24 A0 (in), 25 A1 (in), 26 ~{CAL} (in), 27 AGND (power), 28 V+ (power)

## ADS574JP
designator U?
Microprocessor-Compatible Sampling CMOS Analog-to-Digital Converter; Note: Pin 7 is No internal Connection (NC) pin; Published: 8-Jun-2000; LatestRevisionDate: 06-Jun-2005; LatestRevisionNote: Stylized 3D Model Added.; DatasheetVersion: Jul-1993; PackageVersion: revJ; PackageReference: 215J; Publisher: Altium Limited; PackageDescription: DIP; 28 Leads; Row Spacing 15.24 mm; Pitch 2.54 mm; Code_JEDEC: MS-011-AB; ComponentLink1Description: Manufacturer Link; ComponentLink1URL: http://www.ti.com/; ComponentLink2Description: Datasheet; ComponentLink2URL: http://www-s.ti.com/sc/ds/ads574.pdf
footprint 215J (DIP; 28 Leads; Row Spacing 15.24 mm; Pitch 2.54 mm)
3D model 215J (DIP; 28 Leads; Row Spacing 15.24 mm; Pitch 2.54 mm)
pins: 1 VL+ (power), 2 12/~{8} (in), 3 ~{CS} (in), 4 A0 (in), 5 R~{/C} (in), 6 CE (in), 7 NC, 8 REF O (out), 9 AGND (power), 10 REF IN (in), 11 VEE (power), 12 BIPO, 13 10V RNG, 14 20V RNG, 15 DGND (power), 16 D0 (hiz), 17 D1 (hiz), 18 D2 (hiz), 19 D3 (hiz), 20 D4 (hiz), 21 D5 (hiz), 22 D6 (hiz), 23 D7 (hiz), 24 D8 (hiz), 25 D9 (hiz), 26 D10 (hiz), 27 D11 (hiz), 28 STAT (out)

## ADS574JU
designator U?
Microprocessor-Compatible Sampling CMOS Analog-to-Digital Converter; Note: Pin 7 is No internal Connection (NC) pin; Published: 8-Jun-2000; LatestRevisionDate: 13-Apr-2006; LatestRevisionNote: IPC-7351 Footprint Added.; DatasheetVersion: Jul-1993; PackageReference: 217G; Publisher: Altium Limited; PackageDescription: 28-Pin Small Outline Integrated Circuit 1.27 mm Pitch; ComponentLink1Description: Manufacturer Link; ComponentLink1URL: http://www.ti.com/; ComponentLink2Description: Datasheet; ComponentLink2URL: http://www-s.ti.com/sc/ds/ads574.pdf
footprint 217G_N (SOIC, 28-Leads, Body 17.9x7.5mm, Pitch 1.27mm, IPC Medium Density)
footprint 217G_L (SOIC, 28-Leads, Body 17.9x7.5mm, Pitch 1.27mm, IPC High Density)
footprint 217G_M (SOIC, 28-Leads, Body 17.9x7.5mm, Pitch 1.27mm, IPC Low Density)
3D model 217G (28-Pin Small Outline Integrated Circuit 1.27 mm Pitch)
pins: 1 VL+ (power), 2 12/~{8} (in), 3 ~{CS} (in), 4 A0 (in), 5 R~{/C} (in), 6 CE (in), 7 NC, 8 REF O (out), 9 AGND (power), 10 REF IN (in), 11 VEE (power), 12 BIPO, 13 10V RNG, 14 20V RNG, 15 DGND (power), 16 D0 (hiz), 17 D1 (hiz), 18 D2 (hiz), 19 D3 (hiz), 20 D4 (hiz), 21 D5 (hiz), 22 D6 (hiz), 23 D7 (hiz), 24 D8 (hiz), 25 D9 (hiz), 26 D10 (hiz), 27 D11 (hiz), 28 STAT (out)

## ADS574KP
designator U?
Microprocessor-Compatible Sampling CMOS Analog-to-Digital Converter; Note: Pin 7 is No internal Connection (NC) pin; Published: 8-Jun-2000; LatestRevisionDate: 06-Jun-2005; LatestRevisionNote: Stylized 3D Model Added.; DatasheetVersion: Jul-1993; PackageVersion: revJ; PackageReference: 215J; Publisher: Altium Limited; PackageDescription: DIP; 28 Leads; Row Spacing 15.24 mm; Pitch 2.54 mm; Code_JEDEC: MS-011-AB; ComponentLink1Description: Manufacturer Link; ComponentLink1URL: http://www.ti.com/; ComponentLink2Description: Datasheet; ComponentLink2URL: http://www-s.ti.com/sc/ds/ads574.pdf
footprint 215J (DIP; 28 Leads; Row Spacing 15.24 mm; Pitch 2.54 mm)
3D model 215J (DIP; 28 Leads; Row Spacing 15.24 mm; Pitch 2.54 mm)
pins: 1 VL+ (power), 2 12/~{8} (in), 3 ~{CS} (in), 4 A0 (in), 5 R~{/C} (in), 6 CE (in), 7 NC, 8 REF O (out), 9 AGND (power), 10 REF IN (in), 11 VEE (power), 12 BIPO, 13 10V RNG, 14 20V RNG, 15 DGND (power), 16 D0 (hiz), 17 D1 (hiz), 18 D2 (hiz), 19 D3 (hiz), 20 D4 (hiz), 21 D5 (hiz), 22 D6 (hiz), 23 D7 (hiz), 24 D8 (hiz), 25 D9 (hiz), 26 D10 (hiz), 27 D11 (hiz), 28 STAT (out)

## ADS574KU
designator U?
Microprocessor-Compatible Sampling CMOS Analog-to-Digital Converter; Note: Pin 7 is No internal Connection (NC) pin; Published: 8-Jun-2000; LatestRevisionDate: 13-Apr-2006; LatestRevisionNote: IPC-7351 Footprint Added.; DatasheetVersion: Jul-1993; PackageReference: 217G; Publisher: Altium Limited; PackageDescription: 28-Pin Small Outline Integrated Circuit 1.27 mm Pitch; ComponentLink1Description: Manufacturer Link; ComponentLink1URL: http://www.ti.com/; ComponentLink2Description: Datasheet; ComponentLink2URL: http://www-s.ti.com/sc/ds/ads574.pdf
footprint 217G_N (SOIC, 28-Leads, Body 17.9x7.5mm, Pitch 1.27mm, IPC Medium Density)
footprint 217G_L (SOIC, 28-Leads, Body 17.9x7.5mm, Pitch 1.27mm, IPC High Density)
footprint 217G_M (SOIC, 28-Leads, Body 17.9x7.5mm, Pitch 1.27mm, IPC Low Density)
3D model 217G (28-Pin Small Outline Integrated Circuit 1.27 mm Pitch)
pins: 1 VL+ (power), 2 12/~{8} (in), 3 ~{CS} (in), 4 A0 (in), 5 R~{/C} (in), 6 CE (in), 7 NC, 8 REF O (out), 9 AGND (power), 10 REF IN (in), 11 VEE (power), 12 BIPO, 13 10V RNG, 14 20V RNG, 15 DGND (power), 16 D0 (hiz), 17 D1 (hiz), 18 D2 (hiz), 19 D3 (hiz), 20 D4 (hiz), 21 D5 (hiz), 22 D6 (hiz), 23 D7 (hiz), 24 D8 (hiz), 25 D9 (hiz), 26 D10 (hiz), 27 D11 (hiz), 28 STAT (out)

## ADS602JG
designator U?
12-Bit 1MHz Sampling Analog-to-Digital Converter; Note: Make no external connections with pins 9, 17 and 19.; Published: 8-Jun-2000; LatestRevisionDate: 17-Jul-2002; LatestRevisionNote: Re-released for DXP Platform.; DatasheetVersion: 1995; PackageVersion: 1994; PackageReference: ZZ153; Publisher: Altium Limited; PackageDescription: DIP; 32 Round Pins; Row Space 22.86 mm; Pitch 2.54 mm; ComponentLink1Description: Manufacturer Link; ComponentLink1URL: http://www.ti.com/
footprint ZZ153 (DIP; 32 Round Pins; Row Space 22.86 mm; Pitch 2.54 mm)
pins: 1 B1 (hiz), 2 B2 (hiz), 3 B3 (hiz), 4 B4 (hiz), 5 B5 (hiz), 6 B6 (hiz), 7 VD+ (power), 8 DGND (power), 9 DNC, 10 STAT (out), 11 B7 (hiz), 12 B8 (hiz), 13 B9 (hiz), 14 B10 (hiz), 15 B11 (hiz), 16 B12 (hiz), 17 DNC, 18 CONV (in), 19 DNC, 20 V+ (power), 21 DGND (power), 22 VD+ (power), 23 V- (power), 24 G ADJ (in), 25 IN (in), 26 OS ADJ (in), 27 AGND (power), 28 SIGGND (power), 29 UNI/BI CNTL, 30 V- (power), 31 V+ (power), 32 AGND (power)

## ADS605H
designator U?
12-Bit 10MSPS Analog-to-Digital Converter; Published: 8-Jun-2000; LatestRevisionDate: 06-Jun-2005; LatestRevisionNote: Stylized 3D Model Added.; DatasheetVersion: 1995; PackageVersion: 1994; PackageReference: 237; Publisher: Altium Limited; PackageDescription: DIP; 28 Leads; Row Spacing 15.24 mm; Pitch 2.54 mm; ComponentLink1Description: Manufacturer Link; ComponentLink1URL: http://www.ti.com/
footprint 237 (DIP; 28 Leads; Row Spacing 15.24 mm; Pitch 2.54 mm)
3D model 144 (DIP; 28 Leads; Row Spacing 15.24 mm; Pitch 2.54 mm)
pins: 1 V+ (power), 2 B1 (out), 3 B2 (out), 4 B3 (out), 5 B4 (out), 6 B5 (out), 7 B6 (out), 8 B7 (out), 9 B8 (out), 10 B9 (out), 11 B10 (out), 12 B11 (out), 13 B12 (out), 14 D STB (in), 15 GND (power), 16 CONV (in), 17 VD+ (power), 18 VD- (power), 19 VD- (power), 20 GND (power), 21 G ADJ, 22 OS ADJ, 23 GND (power), 24 V- (power), 25 V- (power), 26 GND (power), 27 IN (in), 28 GND (power)

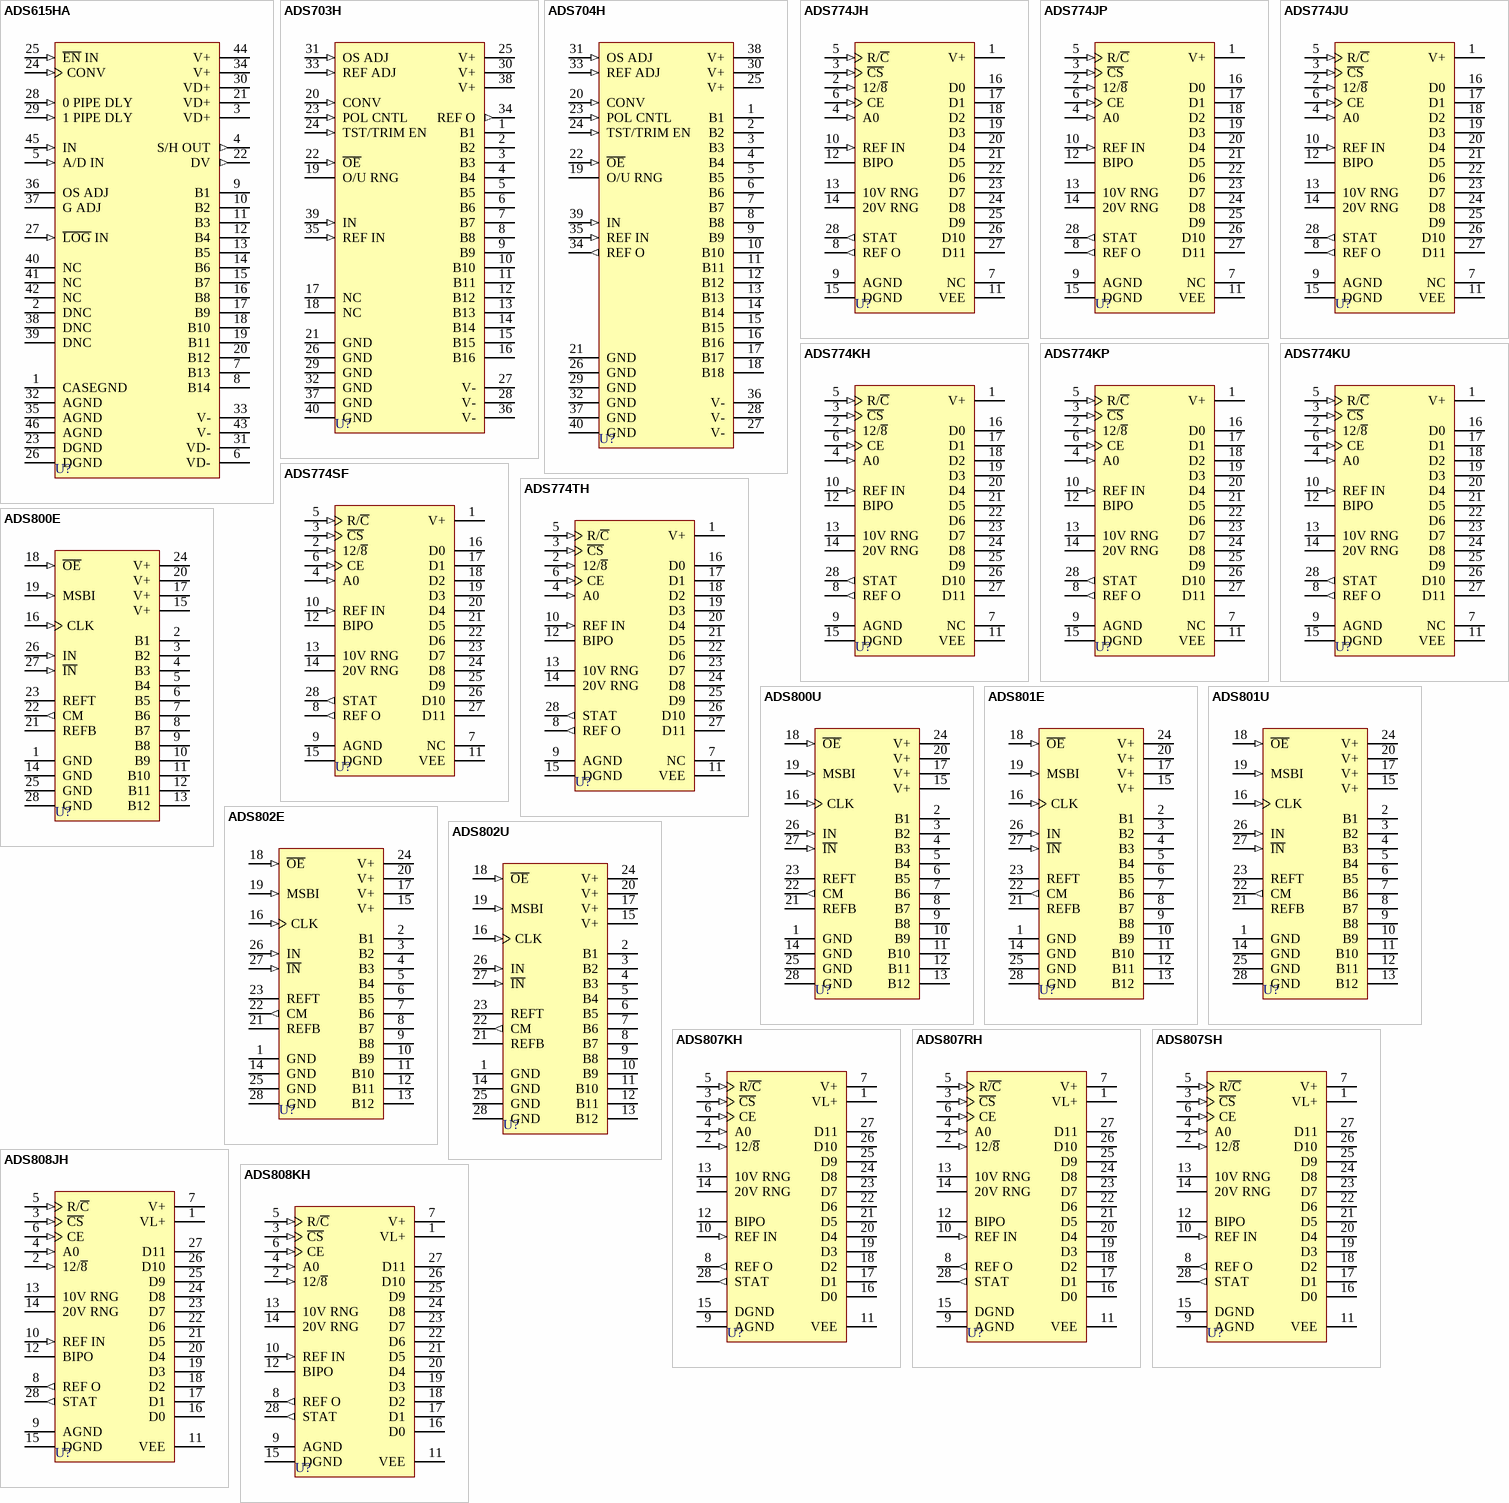
[diagram p4: symbols ADS615HA to ADS808KH]

## ADS615HA
designator U?
14-Bit 8.33MSPS/10MSPS Sampling Analog-to-Digital Converter; Note: Do Not Connect (DNC) pins 2, 38 and 39. Pins 40-42 are NC.; Published: 8-Jun-2000; LatestRevisionDate: 17-Jul-2002; LatestRevisionNote: Re-released for DXP Platform.; DatasheetVersion: Apr-1993; PackageVersion: revB; PackageReference: ZZ234; Publisher: Altium Limited; PackageDescription: DIP; 46 Round Pins; Row Space 33.02 mm; Pitch 2.54 mm; ComponentLink1Description: Manufacturer Link; ComponentLink1URL: http://www.ti.com/
footprint ZZ234 (DIP; 46 Round Pins; Row Space 33.02 mm; Pitch 2.54 mm)
pins: 1 CASEGND (power), 2 DNC, 3 VD+ (power), 4 S/H OUT (out), 5 A/D IN (in), 6 VD- (power), 7 B13 (hiz), 8 B14 (hiz), 9 B1 (hiz), 10 B2 (hiz), 11 B3 (hiz), 12 B4 (hiz), 13 B5 (hiz), 14 B6 (hiz), 15 B7 (hiz), 16 B8 (hiz), 17 B9 (hiz), 18 B10 (hiz), 19 B11 (hiz), 20 B12 (hiz), 21 VD+ (power), 22 DV (out), 23 DGND (power), 24 CONV (in), 25 ~{EN} IN (in), 26 DGND (power), 27 ~{LOG} IN (in), 28 0 PIPE DLY (in), 29 1 PIPE DLY (in), 30 VD+ (power), 31 VD- (power), 32 AGND (power), 33 V- (power), 34 V+ (power), 35 AGND (power), 36 OS ADJ, 37 G ADJ, 38 DNC, 39 DNC, 40 NC, 41 NC, 42 NC, 43 V- (power), 44 V+ (power), 45 IN (in), 46 AGND (power)

## ADS703H
designator U?
16-Bit 2.5MHz Sampling Analog-to-Digital Converter; Note: Pins 17 and 18 are No internal Connection (NC) pins.; Published: 8-Jun-2000; LatestRevisionDate: 06-Jun-2005; LatestRevisionNote: Stylized 3D Model Added.; DatasheetVersion: 1995; PackageVersion: 1994; PackageReference: 214; Publisher: Altium Limited; PackageDescription: DIP; 40 Leads; Row Spacing 15.24 mm; Pitch 2.54 mm; ComponentLink1Description: Manufacturer Link; ComponentLink1URL: http://www.ti.com/
footprint 214 (DIP; 40 Leads; Row Spacing 15.24 mm; Pitch 2.54 mm)
3D model 214 (DIP; 40 Leads; Row Spacing 15.24 mm; Pitch 2.54 mm)
pins: 1 B1 (hiz), 2 B2 (hiz), 3 B3 (hiz), 4 B4 (hiz), 5 B5 (hiz), 6 B6 (hiz), 7 B7 (hiz), 8 B8 (hiz), 9 B9 (hiz), 10 B10 (hiz), 11 B11 (hiz), 12 B12 (hiz), 13 B13 (hiz), 14 B14 (hiz), 15 B15 (hiz), 16 B16 (hiz), 17 NC, 18 NC, 19 O/U RNG, 20 CONV (in), 21 GND (power), 22 ~{OE} (in), 23 POL CNTL (in), 24 TST/TRIM EN (in), 25 V+ (power), 26 GND (power), 27 V- (power), 28 V- (power), 29 GND (power), 30 V+ (power), 31 OS ADJ (in), 32 GND (power), 33 REF ADJ (in), 34 REF O (out), 35 REF IN (in), 36 V- (power), 37 GND (power), 38 V+ (power), 39 IN (in), 40 GND (power)

## ADS704H
designator U?
18-Bit 500KHz Sampling Analog-to-Digital Converter; Published: 8-Jun-2000; LatestRevisionDate: 06-Jun-2005; LatestRevisionNote: Stylized 3D Model Added.; DatasheetVersion: 1995; PackageVersion: 1994; PackageReference: 214; Publisher: Altium Limited; PackageDescription: DIP; 40 Leads; Row Spacing 15.24 mm; Pitch 2.54 mm; ComponentLink1Description: Manufacturer Link; ComponentLink1URL: http://www.ti.com/
footprint 214 (DIP; 40 Leads; Row Spacing 15.24 mm; Pitch 2.54 mm)
3D model 214 (DIP; 40 Leads; Row Spacing 15.24 mm; Pitch 2.54 mm)
pins: 1 B1 (hiz), 2 B2 (hiz), 3 B3 (hiz), 4 B4 (hiz), 5 B5 (hiz), 6 B6 (hiz), 7 B7 (hiz), 8 B8 (hiz), 9 B9 (hiz), 10 B10 (hiz), 11 B11 (hiz), 12 B12 (hiz), 13 B13 (hiz), 14 B14 (hiz), 15 B15 (hiz), 16 B16 (hiz), 17 B17 (hiz), 18 B18 (hiz), 19 O/U RNG, 20 CONV (in), 21 GND (power), 22 ~{OE} (in), 23 POL CNTL (in), 24 TST/TRIM EN (in), 25 V+ (power), 26 GND (power), 27 V- (power), 28 V- (power), 29 GND (power), 30 V+ (power), 31 OS ADJ (in), 32 GND (power), 33 REF ADJ (in), 34 REF O (out), 35 REF IN (in), 36 V- (power), 37 GND (power), 38 V+ (power), 39 IN (in), 40 GND (power)

## ADS774JH
designator U?
Microprocessor-Compatible Sampling CMOS Analog-to-Digital Converter; Note: Pin 7 is No internal Connection (NC) pin; Published: 8-Jun-2000; LatestRevisionDate: 06-Jun-2005; LatestRevisionNote: Stylized 3D Model Added.; DatasheetVersion: 1994; PackageVersion: 1994; PackageReference: 149; Publisher: Altium Limited; PackageDescription: DIP; 28 Leads; Row Spacing 15.24 mm; Pitch 2.54 mm; ComponentLink1Description: Manufacturer Link; ComponentLink1URL: http://www.ti.com/; ComponentLink2Description: Datasheet; ComponentLink2URL: http://www-s.ti.com/sc/ds/ads774.pdf
footprint 149 (DIP; 28 Leads; Row Spacing 15.24 mm; Pitch 2.54 mm)
3D model 149 (DIP; 28 Leads; Row Spacing 15.24 mm; Pitch 2.54 mm)
pins: 1 V+ (power), 2 12/~{8} (in), 3 ~{CS} (in), 4 A0 (in), 5 R/~{C} (in), 6 CE (in), 7 NC, 8 REF O (out), 9 AGND (power), 10 REF IN (in), 11 VEE (power), 12 BIPO, 13 10V RNG, 14 20V RNG, 15 DGND (power), 16 D0 (hiz), 17 D1 (hiz), 18 D2 (hiz), 19 D3 (hiz), 20 D4 (hiz), 21 D5 (hiz), 22 D6 (hiz), 23 D7 (hiz), 24 D8 (hiz), 25 D9 (hiz), 26 D10 (hiz), 27 D11 (hiz), 28 STAT (out)

## ADS774JP
designator U?
Microprocessor-Compatible Sampling CMOS Analog-to-Digital Converter; Note: Pin 7 is No internal Connection (NC) pin; Published: 8-Jun-2000; LatestRevisionDate: 06-Jun-2005; LatestRevisionNote: Stylized 3D Model Added.; DatasheetVersion: 1994; PackageVersion: revJ; PackageReference: 215J; Publisher: Altium Limited; PackageDescription: DIP; 28 Leads; Row Spacing 15.24 mm; Pitch 2.54 mm; Code_JEDEC: MS-011-AB; ComponentLink1Description: Manufacturer Link; ComponentLink1URL: http://www.ti.com/; ComponentLink2Description: Datasheet; ComponentLink2URL: http://www-s.ti.com/sc/ds/ads774.pdf
footprint 215J (DIP; 28 Leads; Row Spacing 15.24 mm; Pitch 2.54 mm)
3D model 215J (DIP; 28 Leads; Row Spacing 15.24 mm; Pitch 2.54 mm)
pins: 1 V+ (power), 2 12/~{8} (in), 3 ~{CS} (in), 4 A0 (in), 5 R/~{C} (in), 6 CE (in), 7 NC, 8 REF O (out), 9 AGND (power), 10 REF IN (in), 11 VEE (power), 12 BIPO, 13 10V RNG, 14 20V RNG, 15 DGND (power), 16 D0 (hiz), 17 D1 (hiz), 18 D2 (hiz), 19 D3 (hiz), 20 D4 (hiz), 21 D5 (hiz), 22 D6 (hiz), 23 D7 (hiz), 24 D8 (hiz), 25 D9 (hiz), 26 D10 (hiz), 27 D11 (hiz), 28 STAT (out)

## ADS774JU
designator U?
Microprocessor-Compatible Sampling CMOS Analog-to-Digital Converter; Note: Pin 7 is No internal Connection (NC) pin; Published: 8-Jun-2000; LatestRevisionDate: 13-Apr-2006; LatestRevisionNote: IPC-7351 Footprint Added.; DatasheetVersion: 1994; PackageReference: 217G; Publisher: Altium Limited; PackageDescription: 28-Pin Small Outline Integrated Circuit 1.27 mm Pitch; ComponentLink1Description: Manufacturer Link; ComponentLink1URL: http://www.ti.com/; ComponentLink2Description: Datasheet; ComponentLink2URL: http://www-s.ti.com/sc/ds/ads774.pdf
footprint 217G_N (SOIC, 28-Leads, Body 17.9x7.5mm, Pitch 1.27mm, IPC Medium Density)
footprint 217G_L (SOIC, 28-Leads, Body 17.9x7.5mm, Pitch 1.27mm, IPC High Density)
footprint 217G_M (SOIC, 28-Leads, Body 17.9x7.5mm, Pitch 1.27mm, IPC Low Density)
3D model 217G (28-Pin Small Outline Integrated Circuit 1.27 mm Pitch)
pins: 1 V+ (power), 2 12/~{8} (in), 3 ~{CS} (in), 4 A0 (in), 5 R/~{C} (in), 6 CE (in), 7 NC, 8 REF O (out), 9 AGND (power), 10 REF IN (in), 11 VEE (power), 12 BIPO, 13 10V RNG, 14 20V RNG, 15 DGND (power), 16 D0 (hiz), 17 D1 (hiz), 18 D2 (hiz), 19 D3 (hiz), 20 D4 (hiz), 21 D5 (hiz), 22 D6 (hiz), 23 D7 (hiz), 24 D8 (hiz), 25 D9 (hiz), 26 D10 (hiz), 27 D11 (hiz), 28 STAT (out)